# EAGLE library part SAMD51J19A-A (library FaBo-MPU)
SAMD51J19A-A SAM=SMART ARM Microcontroller D51=CortexM4F+Advanced Feature Set J=64Pin 19=512KB A=Default Variant A=TQFP
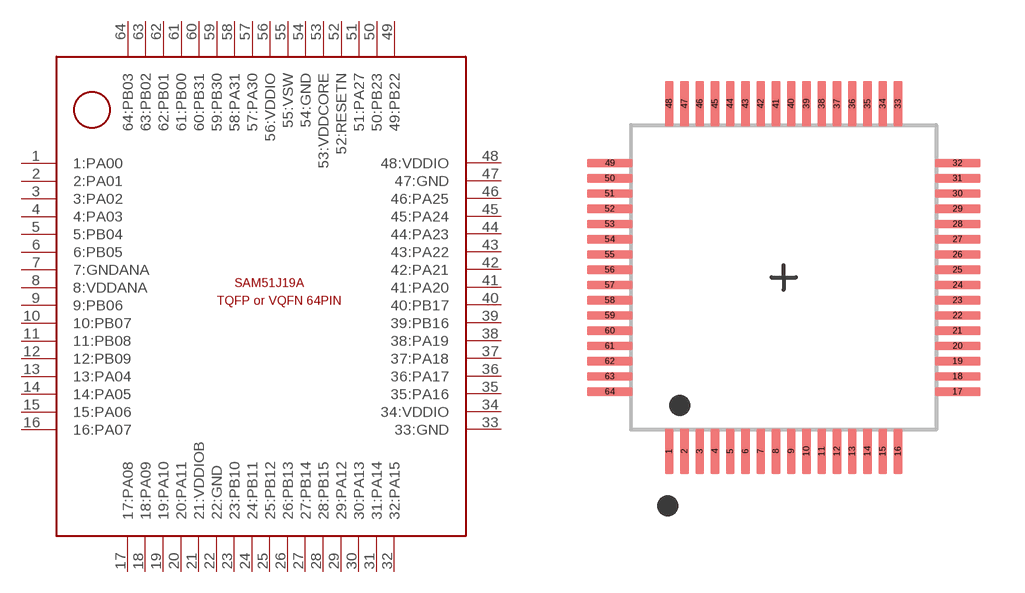
[diagram p10: symbol with the pads of TQFP-64; footprint TQFP-64]

Designator prefix -

## SAMD51J19A-A  [TQFP-64]
1  1:PA00
2  2:PA01
3  3:PA02
4  4:PA03
5  5:PB04
6  6:PB05
7  7:GNDANA
8  8:VDDANA
9  9:PB06
10  10:PB07
11  11:PB08
12  12:PB09
13  13:PA04
14  14:PA05
15  15:PA06
16  16:PA07
17  17:PA08
18  18:PA09
19  19:PA10
20  20:PA11
21  21:VDDIOB
22  22:GND
23  23:PB10
24  24:PB11
25  25:PB12
26  26:PB13
27  27:PB14
28  28:PB15
29  29:PA12
30  30:PA13
31  31:PA14
32  32:PA15
33  33:GND
34  34:VDDIO
35  35:PA16
36  36:PA17
37  37:PA18
38  38:PA19
39  39:PB16
40  40:PB17
41  41:PA20
42  42:PA21
43  43:PA22
44  44:PA23
45  45:PA24
46  46:PA25
47  47:GND
48  48:VDDIO
49  49:PB22
50  50:PB23
51  51:PA27
52  52:RESETN
53  53:VDDCORE
54  54:GND
55  55:VSW
56  56:VDDIO
57  57:PA30
58  58:PA31
59  59:PB30
60  60:PB31
61  61:PB00
62  62:PB01
63  63:PB02
64  64:PB03

## Footprint TQFP-64 (pad centres in mm)
10*10mm Thin Auad Flatpack(TQFP) 2.00mm FootPrint
smd 0.3 x 1.5: 1 -3.75,-5.7; 2 -3.25,-5.7; 3 -2.75,-5.7; 4 -2.25,-5.7; 5 -1.75,-5.7; 6 -1.25,-5.7; 7 -0.75,-5.7; 8 -0.25,-5.7; 9 0.25,-5.7; 10 0.75,-5.7; 11 1.25,-5.7; 12 1.75,-5.7; 13 2.25,-5.7; 14 2.75,-5.7; 15 3.25,-5.7; 16 3.75,-5.7; 33 3.75,5.7; 34 3.25,5.7; 35 2.75,5.7; 36 2.25,5.7; 37 1.75,5.7; 38 1.25,5.7; 39 0.75,5.7; 40 0.25,5.7; 41 -0.25,5.7; 42 -0.75,5.7; 43 -1.25,5.7; 44 -1.75,5.7; 45 -2.25,5.7; 46 -2.75,5.7; 47 -3.25,5.7; 48 -3.75,5.7
smd 1.5 x 0.3: 17 5.7,-3.75; 18 5.7,-3.25; 19 5.7,-2.75; 20 5.7,-2.25; 21 5.7,-1.75; 22 5.7,-1.25; 23 5.7,-0.75; 24 5.7,-0.25; 25 5.7,0.25; 26 5.7,0.75; 27 5.7,1.25; 28 5.7,1.75; 29 5.7,2.25; 30 5.7,2.75; 31 5.7,3.25; 32 5.7,3.75; 49 -5.7,3.75; 50 -5.7,3.25; 51 -5.7,2.75; 52 -5.7,2.25; 53 -5.7,1.75; 54 -5.7,1.25; 55 -5.7,0.75; 56 -5.7,0.25; 57 -5.7,-0.25; 58 -5.7,-0.75; 59 -5.7,-1.25; 60 -5.7,-1.75; 61 -5.7,-2.25; 62 -5.7,-2.75; 63 -5.7,-3.25; 64 -5.7,-3.75